# Altium schematic symbol library FireFly.SchLib: 10 symbols
Pins are listed as number, name and electrical type; pins without a type are passive.

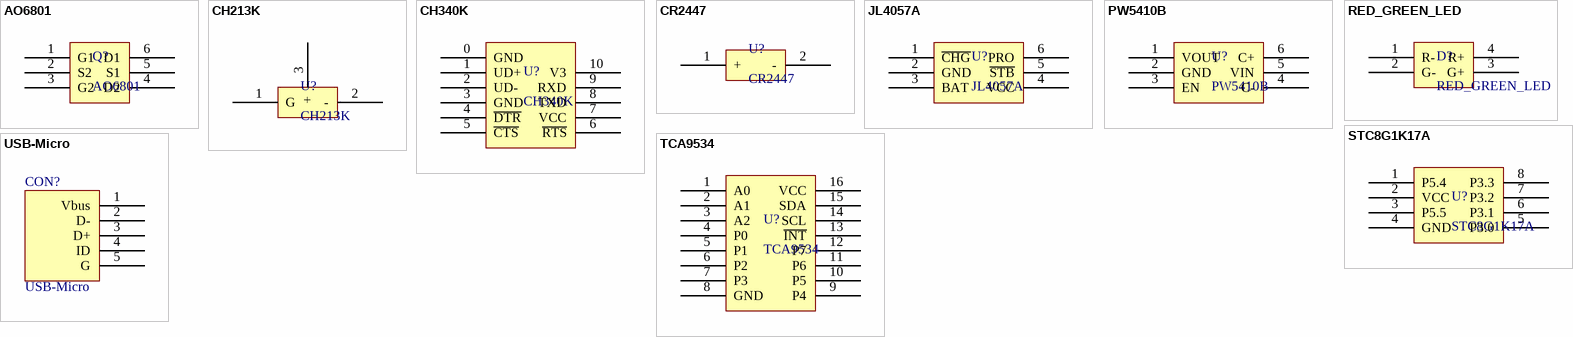
[diagram p0: symbols AO6801 to USB-Micro]

## AO6801
designator Q?
footprint SOT95P330-6M
pins: 1 G1, 2 S2, 3 G2, 4 D2, 5 S1, 6 D1

## CH213K
designator U?
footprint SOT-23B_L (SOT23, 3-Leads, Body 2.9x1.3mm, Pitch 0.95mm, Lead Span 2.4mm, IPC High Density)
pins: 1 G, 2 -, 3 +

## CH340K
designator U?
footprint ESOP100-10 (10-Pin Small Outline Package 1.00 mm Pitch and Pad)
pins: 0 GND, 1 UD+, 2 UD-, 3 GND, 4 ~{DTR}, 5 ~{CTS}, 6 ~{RTS}, 7 VCC, 8 TXD, 9 RXD, 10 V3

## CR2447
designator U?
footprint CR2447 (CR2447 Box)
pins: 1 +, 2 -

## JL4057A
designator U?
JA4057A
footprint SOT95P330-6M
pins: 1 ~{CHG}, 2 GND, 3 BAT, 4 VCC, 5 ~{STB}, 6 PRO

## PW5410B
designator U?
footprint SOT95P330-6M
pins: 1 VOUT, 2 GND, 3 EN, 4 C-, 5 VIN, 6 C+

## RED_GREEN_LED
designator D?
pins: 1 R-, 2 G-, 3 G+, 4 R+

## STC8G1K17A
designator U?
footprint SOP127P780-8M (SOP, 8-Leads, Body 5.3x5.3mm, Pitch 1.27mm, IPC Low Density)
pins: 1 P5.4, 2 VCC, 3 P5.5, 4 GND, 5 P3.0, 6 P3.1, 7 P3.2, 8 P3.3

## TCA9534
designator U?
footprint TSOP65P640-16AM (TSOP, 16-Leads, Body 5x4.4mm, Pitch 0.65mm, IPC Low Density)
pins: 1 A0, 2 A1, 3 A2, 4 P0, 5 P1, 6 P2, 7 P3, 8 GND, 9 P4, 10 P5, 11 P6, 12 P7, 13 ~{INT}, 14 SCL, 15 SDA, 16 VCC

## USB-Micro
designator CON?
footprint USB-micro_B (micro型USB ，5.7*7.8*2.5mm)
pins: 1 Vbus, 2 D-, 3 D+, 4 ID, 5 G